# EAGLE library part ADM3485 (library ExitControl_v2_master_library)
IC TXRX RS485/422 HS 3.3V 8-SOIC
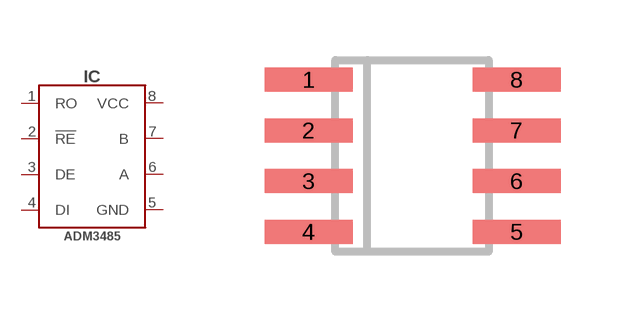
[diagram p8: symbol with the pads of SOIC8-3.9; footprint SOIC8-3.9]

Designator prefix IC

## ADM3485-SOIC8 (DIGIKEY#: ADM3485ARZ-REEL7CT-ND; LINK: http://www.chipdip.ru/product/adm3485ear/; MANF: Analog Devices Inc; MANF#: ADM3485ARZ-REEL7; VALUE: ADM3485)  [SOIC8-3.9]
1  RO  out
2  !RE  in
3  DE  in
4  DI  in
5  GND  pwr
6  A
7  B
8  VCC  pwr

## Footprint SOIC8-3.9 (pad centres in mm)
Small Outline IC
smd 2.2 x 0.6: 1 -2.6,1.905; 2 -2.6,0.635; 3 -2.6,-0.635; 4 -2.6,-1.905; 5 2.6,-1.905; 6 2.6,-0.635; 7 2.6,0.635; 8 2.6,1.905